# Altium footprint library Ultimate GPS.PcbLib: 1 footprints
Each footprint in its own frame and in the unit in brackets; x right, y up, seen from the top. Pads: shape width x height; smd on the part's side, far side on the other; paste and mask are expansions set on the pad; w line width, h text height; cw(c..) or ccw(c..) is an arc to the next point about the centre after c.
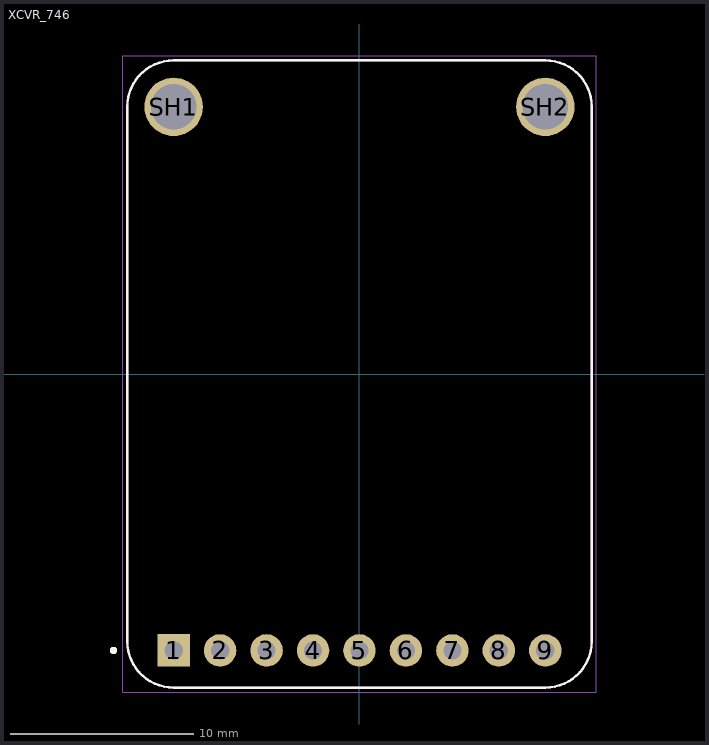
[diagram p0: the footprint, top view; thin cyan lines are the x and y axes]

## XCVR_746 [mil]
pads (11):
  rect 70x70 / inner round 70 / far side rect 70x70 hole 39.37 mask+4.02: 1(-400,-595)
  round 70 hole 39.37 mask+4.02: 2(-300,-595) 3(-200,-595) 4(-100,-595) 5(0,-595) 6(100,-595) 7(200,-595) 8(300,-595) 9(400,-595)
  round 125.98 hole 98.43 mask+4.02: SH1(-400,575) SH2(400,575)
Top Overlay:
  circle w7.87: c-529.53,-595 r3.94
  lines w5: -500,-575 ccw(c-400,-575) -400,-675 400,-675 ccw(c400,-575) 500,-575 500,575 ccw(c400,575) 400,675 -400,675 ccw(c-400,575) -500,575 -500,-575
Assembly Top:
  circle w7.87: c-529.53,-595 r3.94
  lines w5: -500,-575 ccw(c-400,-575) -400,-675 400,-675 ccw(c400,-575) 500,-575 500,575 ccw(c400,575) 400,675 -400,675 ccw(c-400,575) -500,575 -500,-575
Courtyard Top:
  lines w1.97: -509.84,-684.84 -509.84,684.84 509.84,684.84 509.84,-684.84 -509.84,-684.84
3D body "step_temp.STEP": height 590.55, standoff 209.65, extent -500,-670 500,670